# Altium schematic symbol library LCD.SchLib: 3 symbols
Pins are listed as number, name and electrical type; pins without a type are passive.

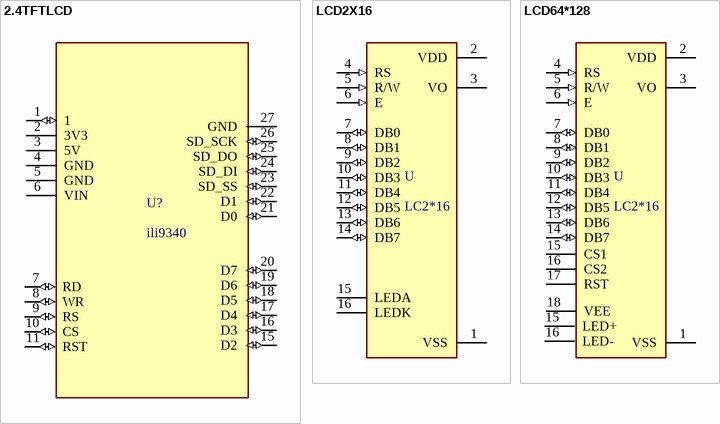
[diagram p0: symbols 2.4TFTLCD to LCD64*128]

## 2.4TFTLCD
designator U?, comment ili9340
Display; Display: LCD 2x16 characters (blue backlight); Value: ili9340
footprint TFT_LCD
pins: 1 (io), 2 3V3 (power), 3 5V (power), 4 GND (power), 5 GND (power), 6 VIN (power), 7 RD (io), 8 WR (io), 9 RS (io), 10 CS (io), 11 RST (io), 15 D2 (io), 16 D3 (io), 17 D4 (io), 18 D5 (io), 19 D6 (io), 20 D7 (io), 21 D0 (io), 22 D1 (io), 23 SD_SS (io), 24 SD_DI (io), 25 SD_DO (io), 26 SD_SCK (io), 27 GND (power)

## LCD2X16
designator U, comment LC2*16
Display; Display: LCD 2x16 characters (blue backlight); Value: LC2*16
footprint LCD_LCD2X16
footprint LCD_LCD4X16
pins: 1 VSS (power), 2 VDD (power), 3 VO, 4 RS (in), 5 R/W (in), 6 E (in), 7 DB0 (io), 8 DB1 (io), 9 DB2 (io), 10 DB3 (io), 11 DB4 (io), 12 DB5 (io), 13 DB6 (io), 14 DB7 (io), 15 LEDA, 16 LEDK

## LCD64*128
designator U, comment LC2*16
Display; Display: LCD 2x16 characters (blue backlight); Value: LC2*16
footprint GLCD128*64
pins: 1 VSS (power), 2 VDD (power), 3 VO, 4 RS (in), 5 R/W (in), 6 E (in), 7 DB0 (io), 8 DB1 (io), 9 DB2 (io), 10 DB3 (io), 11 DB4 (io), 12 DB5 (io), 13 DB6 (io), 14 DB7 (io), 15 CS1, 15 LED+, 16 CS2, 16 LED-, 17 RST, 18 VEE